# Altium schematic symbol library bk2022.SchLib: 1 symbol
Pins are listed as number, name and electrical type; pins without a type are passive.

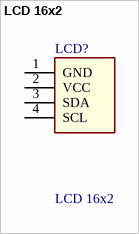
[diagram p0: symbol LCD 16x2]

## LCD 16x2
designator LCD?
Character LCD 16x2
footprint LCD 1602A I2C
pins: 1 GND, 2 VCC, 3 SDA, 4 SCL